# Altium schematic symbol library AP6354.SchLib: 1 symbol
Pins are listed as number, name and electrical type; pins without a type are passive.

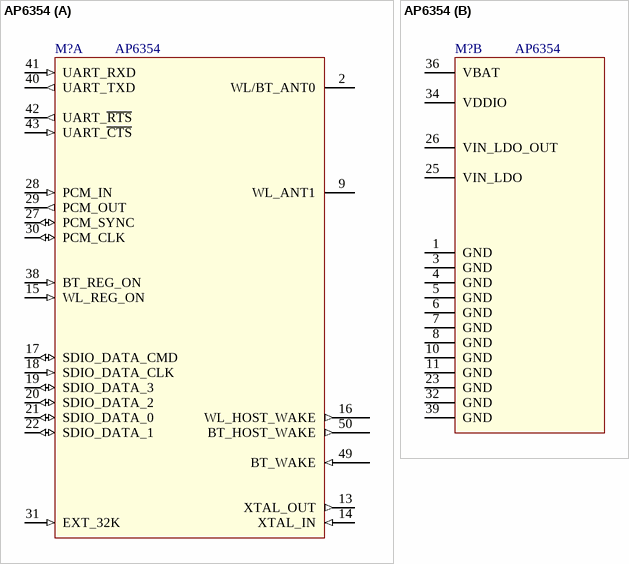
[diagram p0: symbol AP6354]

## AP6354
designator M?
part A pins: 2 WL/BT_ANT0, 9 WL_ANT1, 13 XTAL_OUT (out), 14 XTAL_IN (in), 15 WL_REG_ON (in), 16 WL_HOST_WAKE (out), 17 SDIO_DATA_CMD (io), 18 SDIO_DATA_CLK (in), 19 SDIO_DATA_3 (io), 20 SDIO_DATA_2 (io), 21 SDIO_DATA_0 (io), 22 SDIO_DATA_1 (io), 27 PCM_SYNC (io), 28 PCM_IN (in), 29 PCM_OUT (out), 30 PCM_CLK (io), 31 EXT_32K (in), 38 BT_REG_ON (in), 40 UART_TXD (out) "Bluetooth UART interface", 41 UART_RXD (in) "Bluetooth UART interface", 42 UART_~{RTS} (out) "Bluetooth UART interface", 43 UART_~{CTS} (in) "Bluetooth UART interface", 49 BT_WAKE (in), 50 BT_HOST_WAKE (out)
part B pins: 1 GND (power), 3 GND (power), 4 GND (power), 5 GND (power), 6 GND (power), 7 GND (power), 8 GND (power), 10 GND (power), 11 GND (power), 23 GND (power), 25 VIN_LDO (power) "Internal Buck voltage generation pin", 26 VIN_LDO_OUT (power) "Internal Buck voltage generation pin", 32 GND (power), 34 VDDIO (power) "I/O Voltage supply input", 36 VBAT (power) "Main power voltage source input", 39 GND (power)